# Altium footprint library Dual-In-Line Package.PcbLib: 133 footprints (part 9 of 9)
Each footprint in its own frame and in the unit in brackets; x right, y up, seen from the top. Pads: shape width x height; smd on the part's side, far side on the other; paste and mask are expansions set on the pad; w line width, h text height; cw(c..) or ccw(c..) is an arc to the next point about the centre after c.
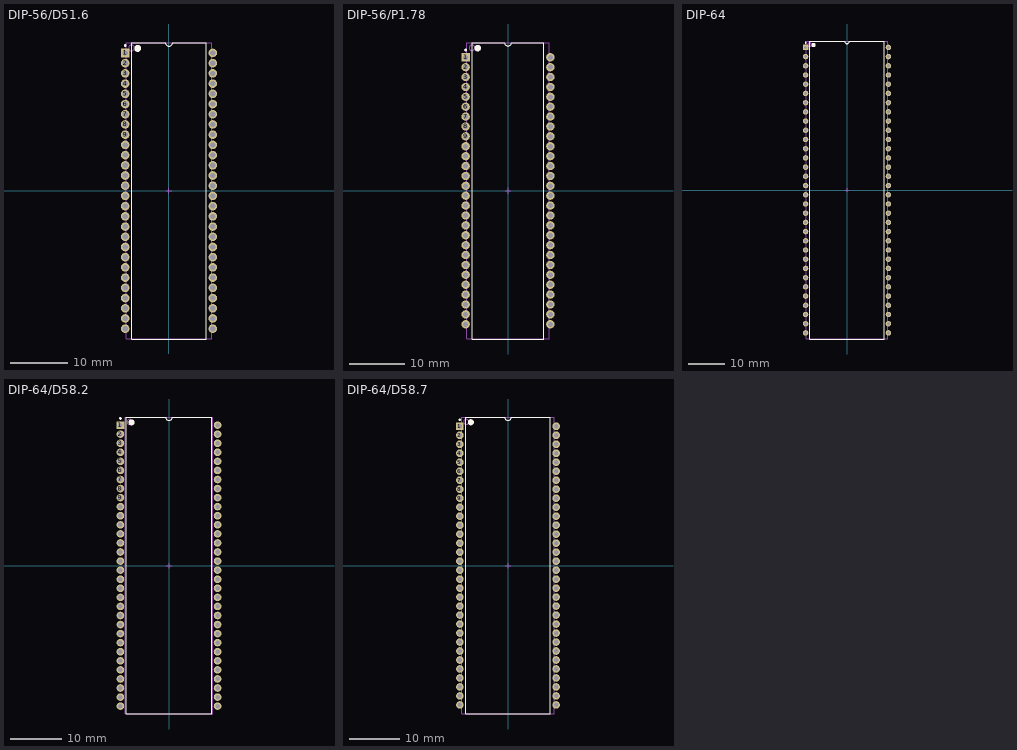
[diagram p8: the footprints below, top view; thin cyan lines are the x and y axes]

## DIP-56/D51.6 [mm] "DIP, Ceramic, Shrink, 56-Pin, Row Spacing 15.24 mm, Pitch 1.778 mm"
height 5.31
pads (56):
  rect 1.5x1.5 hole 0.9: 1(-7.62,24.003)
  round 1.5 hole 0.9: 2(-7.62,22.225) 3(-7.62,20.447) 4(-7.62,18.669) 5(-7.62,16.891) 6(-7.62,15.113) 7(-7.62,13.335) 8(-7.62,11.557) 9(-7.62,9.779) 10(-7.62,8.001) 11(-7.62,6.223) 12(-7.62,4.445) 13(-7.62,2.667) 14(-7.62,0.889) 15(-7.62,-0.889) 16(-7.62,-2.667) 17(-7.62,-4.445) 18(-7.62,-6.223) 19(-7.62,-8.001) 20(-7.62,-9.779) 21(-7.62,-11.557) 22(-7.62,-13.335) 23(-7.62,-15.113) 24(-7.62,-16.891) 25(-7.62,-18.669) 26(-7.62,-20.447) 27(-7.62,-22.225) 28(-7.62,-24.003) 29(7.62,-24.003) 30(7.62,-22.225) 31(7.62,-20.447) 32(7.62,-18.669) 33(7.62,-16.891) 34(7.62,-15.113) 35(7.62,-13.335) 36(7.62,-11.557) 37(7.62,-9.779) 38(7.62,-8.001) 39(7.62,-6.223) 40(7.62,-4.445) 41(7.62,-2.667) 42(7.62,-0.889) 43(7.62,0.889) 44(7.62,2.667) 45(7.62,4.445) 46(7.62,6.223) 47(7.62,8.001) 48(7.62,9.779) 49(7.62,11.557) 50(7.62,13.335) 51(7.62,15.113) 52(7.62,16.891) 53(7.62,18.669) 54(7.62,20.447) 55(7.62,22.225) 56(7.62,24.003)
Top Overlay:
  circle w0.6: c-5.45,24.8 r0.3
  circle w0.25: c-7.62,25.303 r0.125
  lines w0.2: -6.45,-25.8 6.45,-25.8 6.45,25.8 0.635,25.8 cw(c0,25.8) -0.635,25.8 -6.45,25.8 -6.45,-25.8
Mechanical 13:
  circle w0.1: c-6.525,24.875 r0.5
  lines w0.1: -7.425,-25.775 7.425,-25.775 7.425,25.775 -7.425,25.775 -7.425,-25.775
Mechanical 15:
  lines w0.1: -0.5,0 0.5,0 ; 0,-0.5 0,0.5
3D body: height 5.31, standoff 0, extent -7.425,-25.775 7.425,25.775

## DIP-56/P1.78 [mm] "DIP, Plastic Shrink, 56-Pin, Row Spacing 15.24 mm, Pitch 1.778 mm"
height 6.35
pads (56):
  rect 1.5x1.5 hole 0.9: 1(-7.62,24.003)
  round 1.5 hole 0.9: 2(-7.62,22.225) 3(-7.62,20.447) 4(-7.62,18.669) 5(-7.62,16.891) 6(-7.62,15.113) 7(-7.62,13.335) 8(-7.62,11.557) 9(-7.62,9.779) 10(-7.62,8.001) 11(-7.62,6.223) 12(-7.62,4.445) 13(-7.62,2.667) 14(-7.62,0.889) 15(-7.62,-0.889) 16(-7.62,-2.667) 17(-7.62,-4.445) 18(-7.62,-6.223) 19(-7.62,-8.001) 20(-7.62,-9.779) 21(-7.62,-11.557) 22(-7.62,-13.335) 23(-7.62,-15.113) 24(-7.62,-16.891) 25(-7.62,-18.669) 26(-7.62,-20.447) 27(-7.62,-22.225) 28(-7.62,-24.003) 29(7.62,-24.003) 30(7.62,-22.225) 31(7.62,-20.447) 32(7.62,-18.669) 33(7.62,-16.891) 34(7.62,-15.113) 35(7.62,-13.335) 36(7.62,-11.557) 37(7.62,-9.779) 38(7.62,-8.001) 39(7.62,-6.223) 40(7.62,-4.445) 41(7.62,-2.667) 42(7.62,-0.889) 43(7.62,0.889) 44(7.62,2.667) 45(7.62,4.445) 46(7.62,6.223) 47(7.62,8.001) 48(7.62,9.779) 49(7.62,11.557) 50(7.62,13.335) 51(7.62,15.113) 52(7.62,16.891) 53(7.62,18.669) 54(7.62,20.447) 55(7.62,22.225) 56(7.62,24.003)
Top Overlay:
  circle w0.6: c-5.45,25.65 r0.3
  circle w0.25: c-7.62,25.303 r0.125
  lines w0.2: -6.45,-26.65 6.45,-26.65 6.45,26.65 0.635,26.65 cw(c0,26.65) -0.635,26.65 -6.45,26.65 -6.45,-26.65
Mechanical 13:
  circle w0.1: c-6.475,25.7 r0.5
  lines w0.1: -7.375,-26.6 7.375,-26.6 7.375,26.6 -7.375,26.6 -7.375,-26.6
Mechanical 15:
  lines w0.1: -0.5,0 0.5,0 ; 0,-0.5 0,0.5
3D body: height 6.35, standoff 0, extent -7.375,-26.6 7.375,26.6

## DIP-64 [mm] "DIP, Plastic, 64-Pin, Row Spacing 22.86 mm, Pitch 2.54 mm"
height 5.59
pads (64):
  rect 1.5x1.5 hole 0.9: 1(-11.43,39.37)
  round 1.5 hole 0.9: 2(-11.43,36.83) 3(-11.43,34.29) 4(-11.43,31.75) 5(-11.43,29.21) 6(-11.43,26.67) 7(-11.43,24.13) 8(-11.43,21.59) 9(-11.43,19.05) 10(-11.43,16.51) 11(-11.43,13.97) 12(-11.43,11.43) 13(-11.43,8.89) 14(-11.43,6.35) 15(-11.43,3.81) 16(-11.43,1.27) 17(-11.43,-1.27) 18(-11.43,-3.81) 19(-11.43,-6.35) 20(-11.43,-8.89) 21(-11.43,-11.43) 22(-11.43,-13.97) 23(-11.43,-16.51) 24(-11.43,-19.05) 25(-11.43,-21.59) 26(-11.43,-24.13) 27(-11.43,-26.67) 28(-11.43,-29.21) 29(-11.43,-31.75) 30(-11.43,-34.29) 31(-11.43,-36.83) 32(-11.43,-39.37) 33(11.43,-39.37) 34(11.43,-36.83) 35(11.43,-34.29) 36(11.43,-31.75) 37(11.43,-29.21) 38(11.43,-26.67) 39(11.43,-24.13) 40(11.43,-21.59) 41(11.43,-19.05) 42(11.43,-16.51) 43(11.43,-13.97) 44(11.43,-11.43) 45(11.43,-8.89) 46(11.43,-6.35) 47(11.43,-3.81) 48(11.43,-1.27) 49(11.43,1.27) 50(11.43,3.81) 51(11.43,6.35) 52(11.43,8.89) 53(11.43,11.43) 54(11.43,13.97) 55(11.43,16.51) 56(11.43,19.05) 57(11.43,21.59) 58(11.43,24.13) 59(11.43,26.67) 60(11.43,29.21) 61(11.43,31.75) 62(11.43,34.29) 63(11.43,36.83) 64(11.43,39.37)
Top Overlay:
  circle w0.6: c-9.25,40.05 r0.3
  circle w0.25: c-11.43,40.67 r0.125
  lines w0.2: -10.25,-41.05 10.25,-41.05 10.25,41.05 0.635,41.05 cw(c0,41.05) -0.635,41.05 -10.25,41.05 -10.25,-41.05
Mechanical 13:
  circle w0.1: c-10.325,40.125 r0.5
  lines w0.1: -11.225,-41.025 11.225,-41.025 11.225,41.025 -11.225,41.025 -11.225,-41.025
Mechanical 15:
  lines w0.1: -0.5,0 0.5,0 ; 0,-0.5 0,0.5
3D body: height 5.59, standoff 0, extent -11.225,-41.025 11.225,41.025

## DIP-64/D58.2 [mm] "DIP, Plastic, Shrink, 64-Pin, Row Spacing 19.05 mm, Pitch 1.778 mm"
height 5.08
pads (64):
  rect 1.5x1.5 hole 0.9: 1(-9.525,27.559)
  round 1.5 hole 0.9: 2(-9.525,25.781) 3(-9.525,24.003) 4(-9.525,22.225) 5(-9.525,20.447) 6(-9.525,18.669) 7(-9.525,16.891) 8(-9.525,15.113) 9(-9.525,13.335) 10(-9.525,11.557) 11(-9.525,9.779) 12(-9.525,8.001) 13(-9.525,6.223) 14(-9.525,4.445) 15(-9.525,2.667) 16(-9.525,0.889) 17(-9.525,-0.889) 18(-9.525,-2.667) 19(-9.525,-4.445) 20(-9.525,-6.223) 21(-9.525,-8.001) 22(-9.525,-9.779) 23(-9.525,-11.557) 24(-9.525,-13.335) 25(-9.525,-15.113) 26(-9.525,-16.891) 27(-9.525,-18.669) 28(-9.525,-20.447) 29(-9.525,-22.225) 30(-9.525,-24.003) 31(-9.525,-25.781) 32(-9.525,-27.559) 33(9.525,-27.559) 34(9.525,-25.781) 35(9.525,-24.003) 36(9.525,-22.225) 37(9.525,-20.447) 38(9.525,-18.669) 39(9.525,-16.891) 40(9.525,-15.113) 41(9.525,-13.335) 42(9.525,-11.557) 43(9.525,-9.779) 44(9.525,-8.001) 45(9.525,-6.223) 46(9.525,-4.445) 47(9.525,-2.667) 48(9.525,-0.889) 49(9.525,0.889) 50(9.525,2.667) 51(9.525,4.445) 52(9.525,6.223) 53(9.525,8.001) 54(9.525,9.779) 55(9.525,11.557) 56(9.525,13.335) 57(9.525,15.113) 58(9.525,16.891) 59(9.525,18.669) 60(9.525,20.447) 61(9.525,22.225) 62(9.525,24.003) 63(9.525,25.781) 64(9.525,27.559)
Top Overlay:
  circle w0.6: c-7.35,28.1 r0.3
  circle w0.25: c-9.525,28.859 r0.125
  lines w0.2: -8.35,-29.1 8.35,-29.1 8.35,29.1 0.635,29.1 cw(c0,29.1) -0.635,29.1 -8.35,29.1 -8.35,-29.1
Mechanical 13:
  circle w0.1: c-7.725,28.175 r0.5
  lines w0.1: -8.625,-29.075 8.625,-29.075 8.625,29.075 -8.625,29.075 -8.625,-29.075
Mechanical 15:
  lines w0.1: -0.5,0 0.5,0 ; 0,-0.5 0,0.5
3D body: height 5.08, standoff 0, extent -8.625,-29.075 8.625,29.075

## DIP-64/D58.7 [mm] "DIP, 64-Pin, Row Spacing 19.05 mm, Pitch 1.778 mm"
height 5.08
pads (64):
  rect 1.5x1.5 hole 0.9: 1(-9.525,27.559)
  round 1.5 hole 0.9: 2(-9.525,25.781) 3(-9.525,24.003) 4(-9.525,22.225) 5(-9.525,20.447) 6(-9.525,18.669) 7(-9.525,16.891) 8(-9.525,15.113) 9(-9.525,13.335) 10(-9.525,11.557) 11(-9.525,9.779) 12(-9.525,8.001) 13(-9.525,6.223) 14(-9.525,4.445) 15(-9.525,2.667) 16(-9.525,0.889) 17(-9.525,-0.889) 18(-9.525,-2.667) 19(-9.525,-4.445) 20(-9.525,-6.223) 21(-9.525,-8.001) 22(-9.525,-9.779) 23(-9.525,-11.557) 24(-9.525,-13.335) 25(-9.525,-15.113) 26(-9.525,-16.891) 27(-9.525,-18.669) 28(-9.525,-20.447) 29(-9.525,-22.225) 30(-9.525,-24.003) 31(-9.525,-25.781) 32(-9.525,-27.559) 33(9.525,-27.559) 34(9.525,-25.781) 35(9.525,-24.003) 36(9.525,-22.225) 37(9.525,-20.447) 38(9.525,-18.669) 39(9.525,-16.891) 40(9.525,-15.113) 41(9.525,-13.335) 42(9.525,-11.557) 43(9.525,-9.779) 44(9.525,-8.001) 45(9.525,-6.223) 46(9.525,-4.445) 47(9.525,-2.667) 48(9.525,-0.889) 49(9.525,0.889) 50(9.525,2.667) 51(9.525,4.445) 52(9.525,6.223) 53(9.525,8.001) 54(9.525,9.779) 55(9.525,11.557) 56(9.525,13.335) 57(9.525,15.113) 58(9.525,16.891) 59(9.525,18.669) 60(9.525,20.447) 61(9.525,22.225) 62(9.525,24.003) 63(9.525,25.781) 64(9.525,27.559)
Top Overlay:
  circle w0.6: c-7.35,28.35 r0.3
  circle w0.25: c-9.525,28.859 r0.125
  lines w0.2: -8.35,-29.35 8.35,-29.35 8.35,29.35 0.635,29.35 cw(c0,29.35) -0.635,29.35 -8.35,29.35 -8.35,-29.35
Mechanical 13:
  circle w0.1: c-8.25,28.425 r0.5
  lines w0.1: -9.15,-29.325 9.15,-29.325 9.15,29.325 -9.15,29.325 -9.15,-29.325
Mechanical 15:
  lines w0.1: -0.5,0 0.5,0 ; 0,-0.5 0,0.5
3D body: height 5.08, standoff 0, extent -9.15,-29.325 9.15,29.325